# EAGLE library part TPS61175PWPR (library custom)
3-A High Voltage Boost Converter
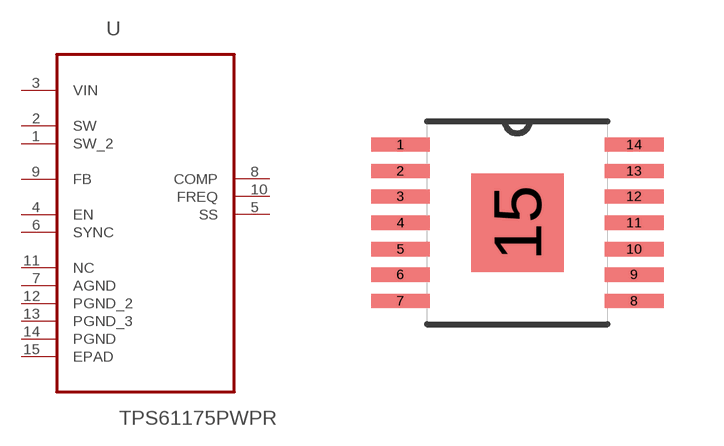
[diagram p4: symbol with the pads of SOP65P640X120-15N; footprint SOP65P640X120-15N]

Designator prefix U

## TPS61175PWPR (AVAILABILITY: Good; DESCRIPTION: 3-A High Voltage Boost Converter with Soft-start and Programmable Switching Frequency 14-HTSSOP -40 to 85; MF: Texas Instruments; MP: TPS61175PWPR; PACKAGE: HTSSOP-14 Texas Instruments; PRICE: 2.10 USD)  [SOP65P640X120-15N]
1  SW_2  in
2  SW  in
3  VIN  pwr
4  EN  in
5  SS  out
6  SYNC  in
7  AGND  pas
8  COMP  out
9  FB  in
10  FREQ  out
11  NC  nc
12  PGND_2  pas
13  PGND_3  pas
14  PGND  pas
15  EPAD  pas

## Footprint SOP65P640X120-15N (pad centres in mm)
smd 1.473 x 0.356: 1 -2.921,1.956; 2 -2.921,1.295; 3 -2.921,0.66; 4 -2.921,0; 5 -2.921,-0.66; 6 -2.921,-1.295; 7 -2.921,-1.956; 8 2.921,-1.956; 9 2.921,-1.295; 10 2.921,-0.66; 11 2.921,0; 12 2.921,0.66; 13 2.921,1.295; 14 2.921,1.956
smd 2.311 x 2.464: 15 0,0